# Altium footprint library SON80P400X400X100-9N.PcbLib: 1 footprints
Each footprint in its own frame and in the unit in brackets; x right, y up, seen from the top. Pads: shape width x height; smd on the part's side, far side on the other; paste and mask are expansions set on the pad; w line width, h text height; cw(c..) or ccw(c..) is an arc to the next point about the centre after c.
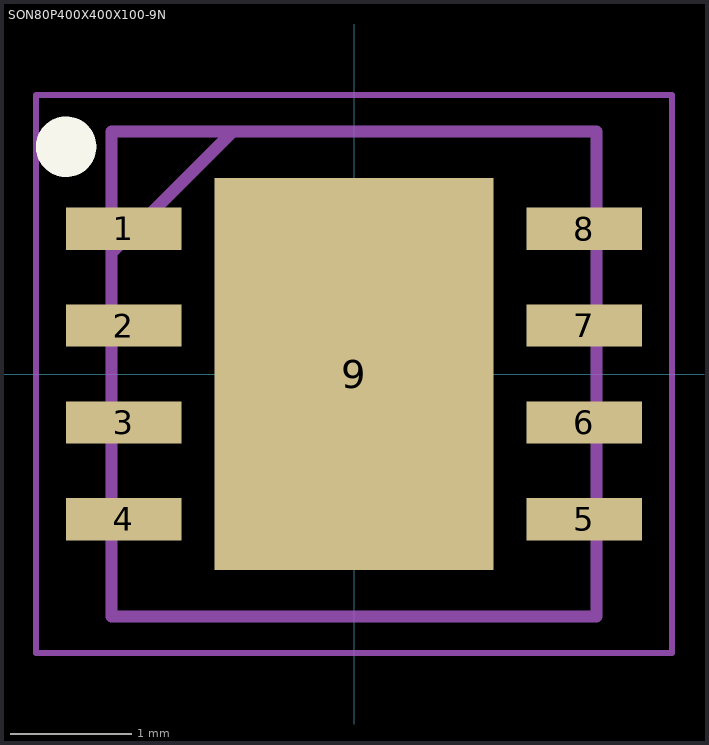
[diagram p0: the footprint, top view; thin cyan lines are the x and y axes]

## SON80P400X400X100-9N [mm]
pads (9):
  rect 0.95x0.35 smd: 1(-1.9,1.2) 2(-1.9,0.4) 3(-1.9,-0.4) 4(-1.9,-1.2) 5(1.9,-1.2) 6(1.9,-0.4) 7(1.9,0.4) 8(1.9,1.2)
  rect 2.3x3.23 smd: 9(0,0)
Top Overlay:
  circle w0.25: c-2.375,1.875 r0.125
Mechanical 15:
  lines w0.1: -2,1 -1,2 ; -2,-2 2,-2 2,2 -2,2 -2,-2
Mechanical 20:
  lines w0.05: -2.625,-2.3 2.625,-2.3 2.625,2.3 -2.625,2.3 -2.625,-2.3